# Altium footprint library TSOP6.PcbLib: 1 footprints
Each footprint in its own frame and in the unit in brackets; x right, y up, seen from the top. Pads: shape width x height; smd on the part's side, far side on the other; paste and mask are expansions set on the pad; w line width, h text height; cw(c..) or ccw(c..) is an arc to the next point about the centre after c.
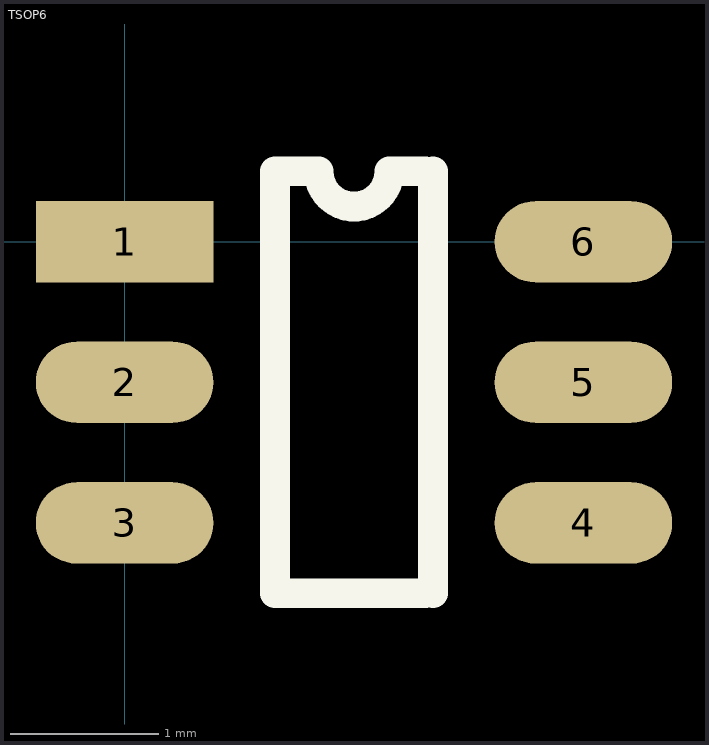
[diagram p0: the footprint, top view; thin cyan lines are the x and y axes]

## TSOP6 [mm]
pads (6):
  rect 1.2x0.55 smd: 1(0,0)
  oval 1.2x0.55 smd: 2(0,-0.95) 3(0,-1.9) 4(3.1,-1.9) 5(3.1,-0.95) 6(3.1,0)
Top Overlay:
  lines w0.2: 2.032,-2.375 1.016,-2.375 1.016,0.475 1.312,0.475 ccw(c1.55,0.475) 1.787,0.475 2.032,0.475 ; 2.084,-2.375 2.084,0.475
3D body "SOT457.step": height 0.97, standoff -0.04, extent 0.15,-2.425 2.9,0.525